# Altium schematic symbol library IRLMSxxxx.SchLib: 1 symbol
Pins are listed as number, name and electrical type; pins without a type are passive.

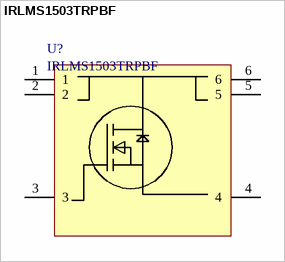
[diagram p0: symbol IRLMS1503TRPBF]

## IRLMS1503TRPBF
designator U?
N-Channel MOSFET; datasheet: http://www.irf.com/product-info/datasheets/data/irlms1503pbf.pdf
pins: 1, 2, 3, 4, 5, 6